# Altium schematic symbol library Samtec SWD+VCOM Header - J-Link.SchLib: 1 symbol
Pins are listed as number, name and electrical type; pins without a type are passive.

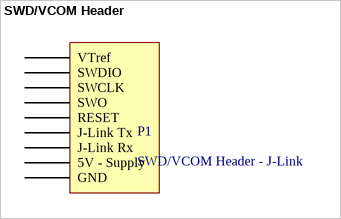
[diagram p0: symbol SWD/VCOM Header]

## SWD/VCOM Header
designator P1, comment SWD/VCOM Header - J-Link
footprint 20 Pin 100 Mil Shrouded header with key (TST-110-01-G-D)
pins: 1 VTref, 4 GND, 5 J-Link Tx, 6 GND, 7 SWDIO, 8 GND, 9 SWCLK, 10 GND, 12 GND, 13 SWO, 15 RESET, 17 J-Link Rx, 19 5V - Supply